# EAGLE library part LM358 (library SaintGimp)
Jellybean op-amp
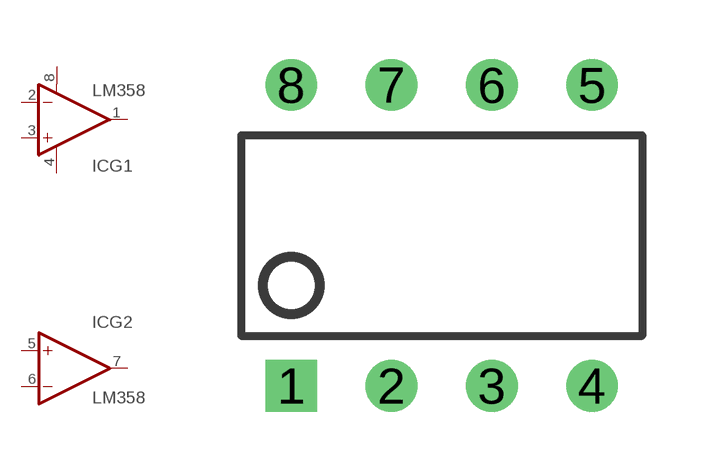
[diagram p2: symbol with the pads of DIP08; footprint DIP08]

Designator prefix IC; gates G1=OP-AMP+- G2=OP-AMP

## LM358 (PROD_ID: IC-09172)  [DIP08]
1  G1:OUT  out
2  G1:-IN  in
3  G1:+IN  in
4  G1:V-  pwr
5  G2:+IN  in
6  G2:-IN  in
7  G2:OUT  out
8  G1:V+  pwr

## Footprint DIP08 (pad centres in mm)
Dual In Line
drill 0.8 square: 1 -3.81,-3.81
drill 0.8: 2 -1.27,-3.81; 3 1.27,-3.81; 4 3.81,-3.81; 5 3.81,3.81; 6 1.27,3.81; 7 -1.27,3.81; 8 -3.81,3.81